# EAGLE library part TXB0104 (library TXB0104)
TI 4-bit bidirectional voltage translator
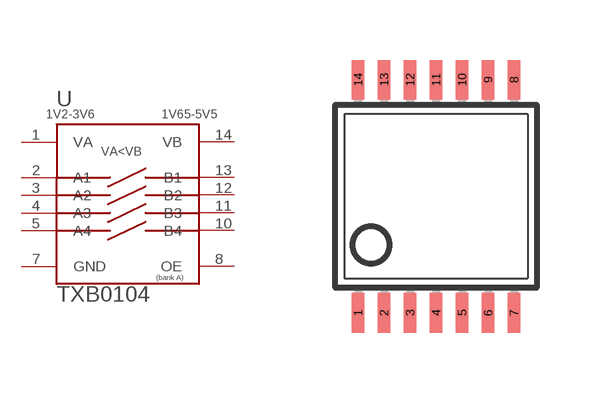
[diagram p0: symbol with the pads of TSSOP14; footprint TSSOP14]

Designator prefix -

## TXB0104PWR (AVAILABILITY: Unavailable; DESCRIPTION: 4-Bit Bidirectional Voltage-Level Translator with Auto Direction Sensing and +/-15 kV ESD Protect; MF: Texas Instruments; MP: TXB0104; PACKAGE: None; PRICE: None)  [TSSOP14]
1  VA
2  A1
3  A2
4  A3
5  A4
7  GND
8  OE
10  B4
11  B3
12  B2
13  B1
14  VB

## Footprint TSSOP14 (pad centres in mm)
Thin Shrink Small Outline Plastic 14, 4.40mm width Forget where I copied from, but seems to work well. Could maybe make pads longer for easier hand-soldering.
smd 0.305 x 0.991: 1 -1.95,-2.918; 2 -1.3,-2.918; 3 -0.65,-2.918; 4 0,-2.918; 5 0.65,-2.918; 6 1.3,-2.918; 7 1.95,-2.918; 8 1.95,2.918; 9 1.3,2.918; 10 0.65,2.918; 11 0,2.918; 12 -0.65,2.918; 13 -1.3,2.918; 14 -1.95,2.918